# Altium footprint library PCB - POWER INDUCTORS - WURTH WE-HCF 14.5MM.PcbLib: 1 footprints
Each footprint in its own frame and in the unit in brackets; x right, y up, seen from the top. Pads: shape width x height; smd on the part's side, far side on the other; paste and mask are expansions set on the pad; w line width, h text height; cw(c..) or ccw(c..) is an arc to the next point about the centre after c.
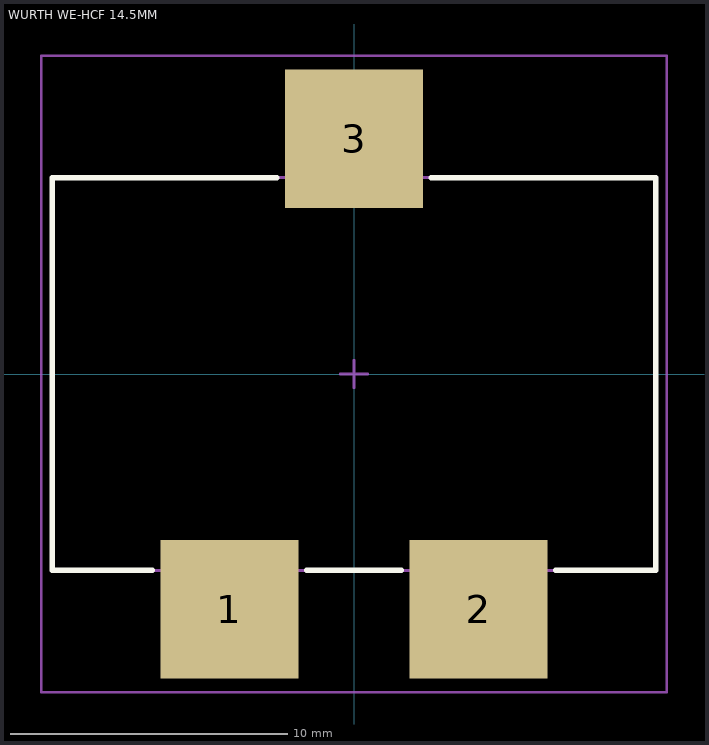
[diagram p0: the footprint, top view; thin cyan lines are the x and y axes]

## WURTH WE-HCF 14.5MM [mm] "SMD High Current Inductor, body 21.8x14.2mm"
height 14.5
pads (3):
  rect 5x5 smd: 1(-4.5,-8.5) 2(4.5,-8.5) 3(0,8.5)
Top Overlay:
  lines w0.2: -7.3,-7.1 -10.9,-7.1 -10.9,7.1 -2.8,7.1 ; -1.7,-7.1 1.7,-7.1 ; 2.8,7.1 10.9,7.1 10.9,-7.1 7.3,-7.1
Mechanical 13:
  lines w0.1: -10.9,-7.1 -10.9,7.1 10.9,7.1 10.9,-7.1 -10.9,-7.1
Mechanical 15:
  lines w0.1: -0.5,0 0.5,0 ; 0,-0.5 0,0.5 ; -11.3,-11.5 -11.3,11.5 11.3,11.5 11.3,-11.5 -11.3,-11.5
3D body "WURTH WE-HCF 14.5mm.step": height 14, standoff 0, extent -10.75,-10.6 10.75,10.4